# EAGLE library part WE-RJ45-LAN-100BT-POE+_7499410420 (library Wurth_Elektronik_EMC_COMPONENTS_rev16c)
WE-RJ45 LAN Transformer 2016(C) Würth Elektronik
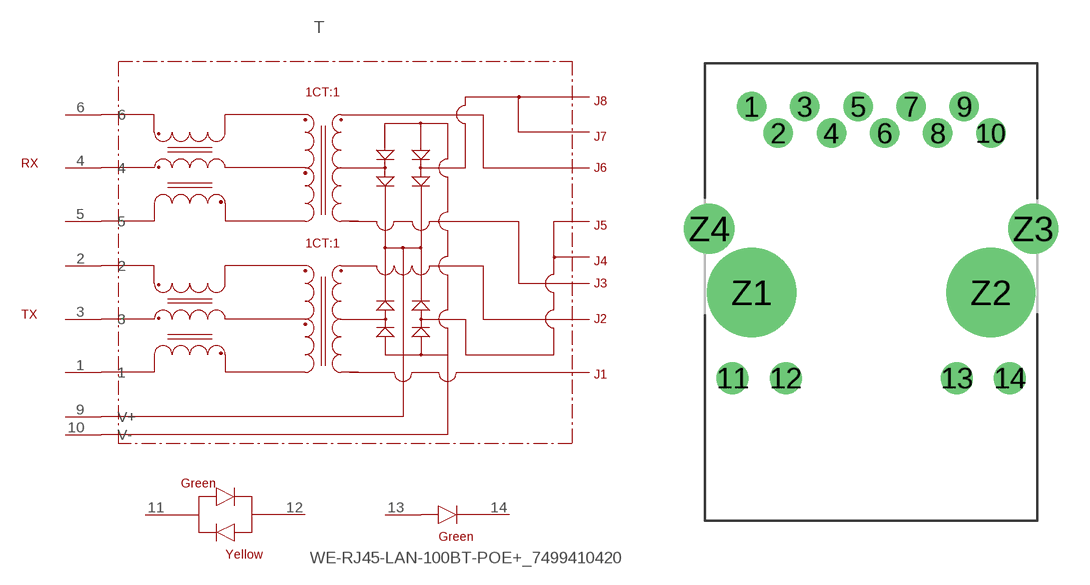
[diagram p231: symbol with the pads of 7499410420; footprint 7499410420]

Designator prefix T

## WE-RJ45-LAN-100BT-POE+_7499410420  [7499410420]
1  1
2  2
3  3
4  4
5  5
6  6
9  V+
10  V-
11  11
12  12
13  13
14  14

## Footprint 7499410420 (pad centres in mm)
drill 0.9: 1 -5.715,8.89; 2 -4.445,7.62; 3 -3.175,8.89; 4 -1.905,7.62; 5 -0.635,8.89; 6 0.635,7.62; 7 1.905,8.89; 8 3.175,7.62; 9 4.445,8.89; 10 5.715,7.62
drill 1.02: 11 -6.63,-4.08; 12 -4.09,-4.08; 13 4.09,-4.08; 14 6.63,-4.08
drill 3.25: Z1 -5.715,0; Z2 5.715,0
drill 1.6: Z3 7.745,3.05; Z4 -7.745,3.05